# EAGLE library part LCW-106-XX-X-S-RE (library con-samtec)
Male Header - LCW Series
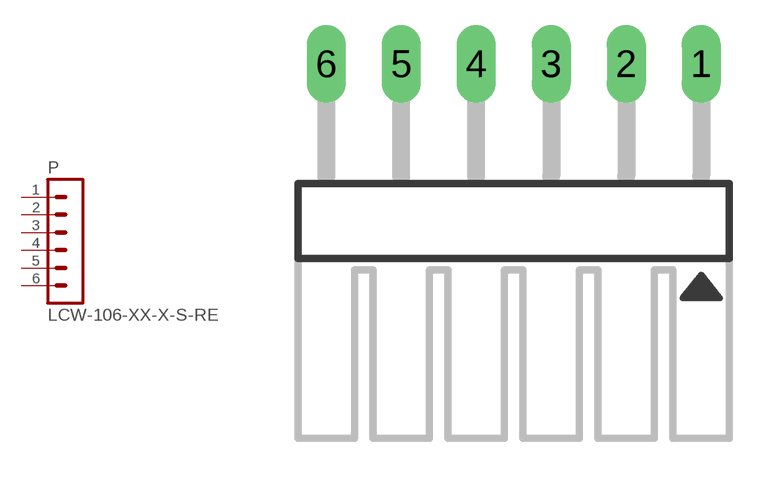
[diagram p8: symbol with the pads of LCW-106-XX-X-S-RE; footprint LCW-106-XX-X-S-RE]

Designator prefix P

## LCW-106-XX-X-S-RE  [LCW-106-XX-X-S-RE]
1  1  pas
2  2  pas
3  3  pas
4  4  pas
5  5  pas
6  6  pas

## Footprint LCW-106-XX-X-S-RE (pad centres in mm)
Samtec LCW Series right angle, friction lock strips, 0.025" square pins
drill 0.813 long: 1 6.35,0; 2 3.81,0; 3 1.27,0; 4 -1.27,0; 5 -3.81,0; 6 -6.35,0